# Altium footprint library TO-263-3 (D2-PAK).PcbLib: 1 footprints
Each footprint in its own frame and in the unit in brackets; x right, y up, seen from the top. Pads: shape width x height; smd on the part's side, far side on the other; paste and mask are expansions set on the pad; w line width, h text height; cw(c..) or ccw(c..) is an arc to the next point about the centre after c.
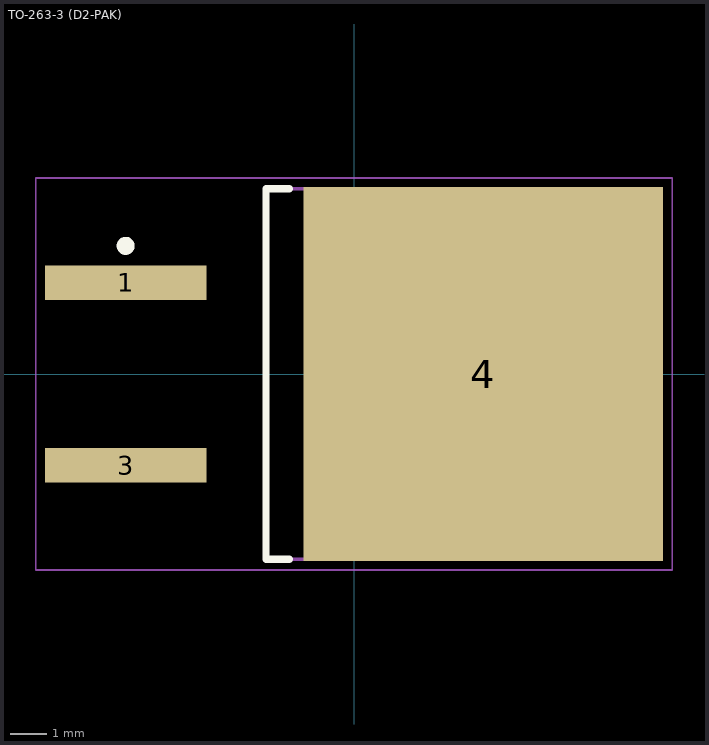
[diagram p0: the footprint, top view; thin cyan lines are the x and y axes]

## TO-263-3 (D2-PAK) [mm] "D2-PAK, 3-Pads, Body 7.25x8.51mm (max), IPC Medium Density"
height 4.7
pads (3):
  rect 4.5x0.95 smd: 1(-6.35,2.54) 3(-6.35,-2.54)
  rect 10x10.4 smd: 4(3.6,0)
Top Overlay:
  circle w0.25: c-6.35,3.565 r0.125
  lines w0.2: -1.8,-5.15 -2.45,-5.15 -2.45,5.15 -1.8,5.15
Mechanical 13:
  lines w0.1: -2.45,-5.15 5.85,-5.15 5.85,5.15 -2.45,5.15 -2.45,-5.15
Mechanical 15:
  lines w0.05: -8.85,-5.45 8.85,-5.45 8.85,5.45 -8.85,5.45 -8.85,-5.45
  lines w0.1: -0.5,0 0.5,0 ; 0,-0.5 0,0.5
3D body "TO-263 (D2-PAK).step": height 4.7, standoff 0, extent -7.9,-5.15 7.8,5.15